# Altium footprint library misc.PcbLib: 17 footprints (part 1 of 2)
Each footprint in its own frame and in the unit in brackets; x right, y up, seen from the top. Pads: shape width x height; smd on the part's side, far side on the other; paste and mask are expansions set on the pad; w line width, h text height; cw(c..) or ccw(c..) is an arc to the next point about the centre after c.
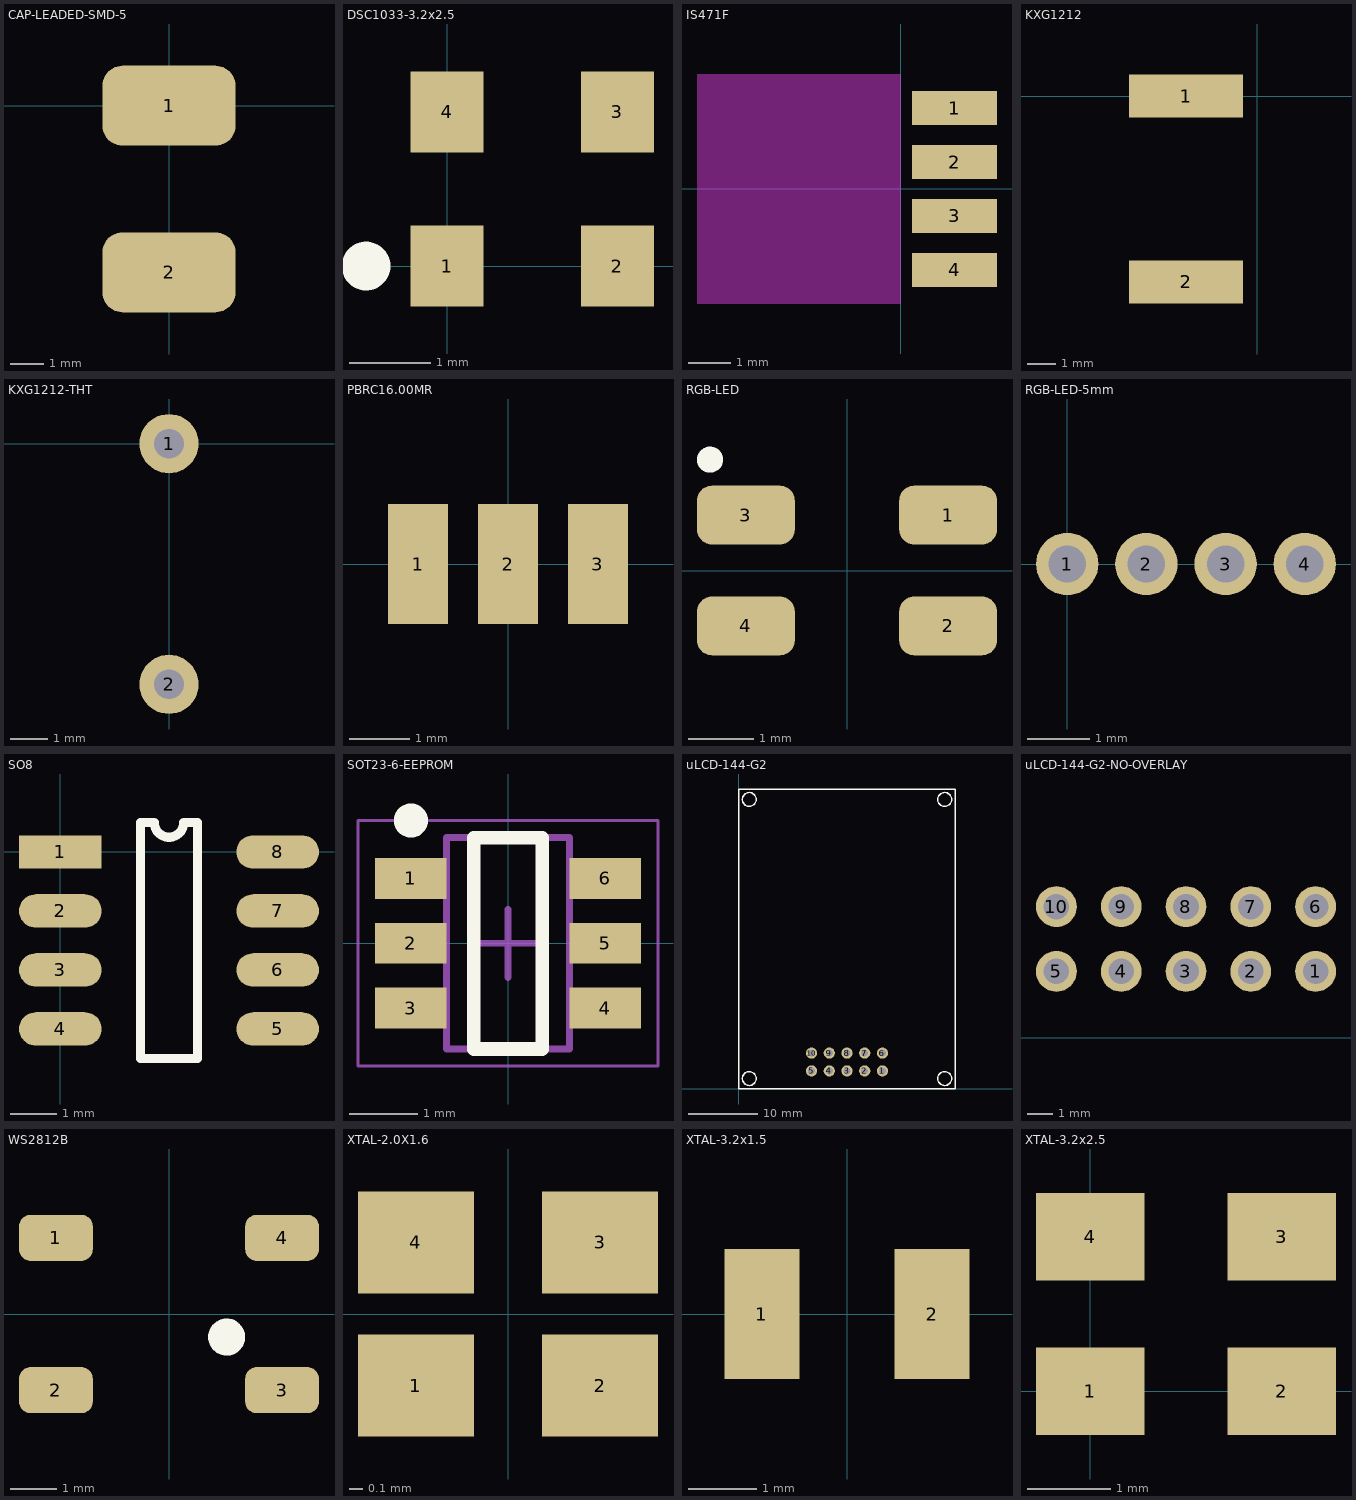
[diagram p0: the footprints below, top view; thin cyan lines are the x and y axes]

## CAP-LEADED-SMD-5 [mm]
pads (2):
  rrect50% 4x2.4 smd: 1(0,0) 2(0,-5)

## DSC1033-3.2x2.5 [mm]
pads (4):
  rect 0.9x1 smd: 1(0,0) 2(2.1,0) 3(2.1,1.9) 4(0,1.9)
Top Overlay:
  circle w0.4: c-1,0 r0.1
3D body "Crystal_3.2x2.5.STEP": height 0.8, standoff 0, extent -0.55,-0.3 2.65,2.2

## IS471F [mm]
pads (4):
  rect 2x0.8 smd: 1(1.27,1.905) 2(1.27,0.635) 3(1.27,-0.635) 4(1.27,-1.905)
Keep-Out Layer:
  board cut-out: -4.8,2.7 -4.8,-2.7 0,-2.7 0,2.7
3D body "is471f.STEP": height 1.56, standoff -0.94, extent -4.6,-2.5 1.8,2.5

## KXG1212 [mm]
pads (2):
  rect 4x1.5 smd: 1(-2.5,0) 2(-2.5,-6.5)
3D body "buzzer_KXG1212.STEP": height 6.3, standoff -5.7, extent -5.5,-9.25 9.5,2.75

## KXG1212-THT [mm]
pads (2):
  round 1.6 hole 0.8: 1(0,0) 2(0,-6.5)
3D body "buzzer_KXG1212.STEP": height 9.5, standoff -5.5, extent -6,-9.25 6,2.75

## PBRC16.00MR [mm]
pads (3):
  rect 1x2 smd: 1(-1.5,0) 2(0,0) 3(1.5,0)
3D body: height 1.2, standoff 0, extent -2.25,-1 2.25,1

## RGB-LED [mm] "WURTH ELEKTRONIK 150141M173100"
height 1.9
pads (4):
  rrect50% 1.5x0.9 smd: 1(1.55,0.85) 2(1.55,-0.85) 3(-1.55,0.85) 4(-1.55,-0.85)
Top Overlay:
  circle w0.2: c-2.1,1.7 r0.1
3D body "User Library-ASMB-MTB0-0A3A2.step": height 1.91, standoff 0.01, extent -1.75,-1.4 1.75,1.4

## RGB-LED-5mm [mm]
pads (4):
  round 1 hole 0.6: 1(0,0) 2(1.27,0) 3(2.54,0) 4(3.81,0)

## SO8 [mm]
height 1.5
pads (8):
  rect 1.78x0.72 smd: 1(0,0)
  oval 1.78x0.72 smd: 2(0,-1.27) 3(0,-2.54) 4(0,-3.81) 5(4.68,-3.81) 6(4.68,-2.54) 7(4.68,-1.27) 8(4.68,0)
Top Overlay:
  lines w0.2: 1.725,-4.445 2.955,-4.445 2.955,0.635 2.658,0.635 cw(c2.34,0.635) 2.023,0.635 1.725,0.635 1.725,-4.445
3D body "CircuitWorks-SO-8.step": height 1.46, standoff 0.01, extent -0.564,-4.352 5.214,0.55

## SOT23-6-EEPROM [mm] "SOT23, 6-Leads, Body 2,90x2,70mm, Pitch 0,95mm, IPC Medium Density"
height 1.45
pads (6):
  rect 1.05x0.6 smd: 1(-1.425,0.95) 2(-1.425,0) 3(-1.425,-0.95) 4(1.425,-0.95) 5(1.425,0) 6(1.425,0.95)
Top Overlay:
  circle w0.25: c-1.425,1.8 r0.125
  lines w0.2: -0.5,-1.55 -0.5,1.55 0.5,1.55 0.5,-1.55 -0.5,-1.55
Mechanical 13:
  lines w0.1: -0.9,-1.55 0.9,-1.55 0.9,1.55 -0.9,1.55 -0.9,-1.55
Mechanical 15:
  lines w0.05: -2.2,-1.8 2.2,-1.8 2.2,1.8 -2.2,1.8 -2.2,-1.8
  lines w0.1: -0.5,0 0.5,0 ; 0,-0.5 0,0.5
3D body "User Library-SOT23-6-2.step": height 1.45, standoff 0, extent -1.425,-1.45 1.375,1.45

## uLCD-144-G2 [mm]
pads (10):
  round 1.6 hole 1 unplated: 1(20.58,2.6) 2(18.04,2.6) 3(15.5,2.6) 4(12.96,2.6) 5(10.42,2.6) 6(20.58,5.14) 7(18.04,5.14) 8(15.5,5.14) 9(12.96,5.14) 10(10.42,5.14)
Top Overlay:
  circle w0.2: c29.5,41.5 r1
  circle w0.2: c1.5,41.5 r1
  circle w0.2: c29.5,1.5 r1
  circle w0.2: c1.5,1.5 r1
  lines w0.2: 0,0 31,0 31,43 0,43 0,0
3D body: height 13.7, standoff 7, extent 0,0 31,43

## uLCD-144-G2-NO-OVERLAY [mm]
pads (10):
  round 1.6 hole 1 unplated: 1(20.58,2.6) 2(18.04,2.6) 3(15.5,2.6) 4(12.96,2.6) 5(10.42,2.6) 6(20.58,5.14) 7(18.04,5.14) 8(15.5,5.14) 9(12.96,5.14) 10(10.42,5.14)
3D body: height 13.7, standoff 7, extent 0,0 31,43

## WS2812B [mm]
pads (4):
  rrect50% 1.6x1 smd: 1(-2.45,1.65) 2(-2.45,-1.65) 3(2.45,-1.65) 4(2.45,1.65)
Top Overlay:
  circle w0.4: c1.25,-0.5 r0.202
3D body "User Library-WS2812B.step": height 1.71, standoff 0.01, extent -2.7,-2.5 2.7,2.5

## XTAL-2.0X1.6 [mm]
pads (4):
  rect 0.85x0.75 smd: 1(-0.675,-0.525) 2(0.675,-0.525) 3(0.675,0.525) 4(-0.675,0.525)
3D body "ABM11W.step": height 0.5, standoff 0, extent -1,-0.8 1,0.8

## XTAL-3.2x1.5 [mm]
pads (2):
  rect 1.1x1.9 smd: 1(-1.25,0) 2(1.25,0)
3D body "ABS07.step": height 0.89, standoff 0, extent -1.6,-0.749 1.6,0.749

## XTAL-3.2x2.5 [mm]
pads (4):
  rect 1.3x1.05 smd: 1(0,0) 2(2.3,0) 3(2.3,1.85) 4(0,1.85)
3D body "Crystal_3.2x2.5.STEP": height 0.8, standoff 0, extent -0.45,-0.325 2.75,2.175